# Altium schematic symbol library Misc.SchLib: 4 symbols
Pins are listed as number, name and electrical type; pins without a type are passive.

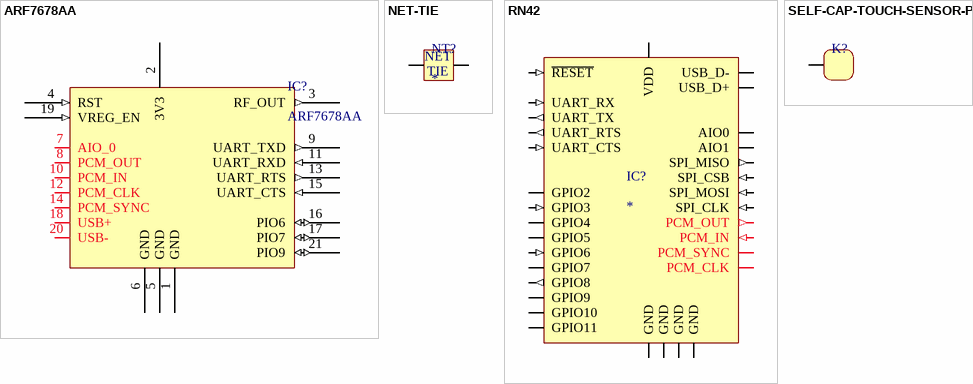
[diagram p0: symbols ARF7678AA to SELF-CAP-TOUCH-SENSOR-PAD]

## ARF7678AA
designator IC?
Bluetooth 2.1 module
footprint BTC2
pins: 1 GND (power), 2 3V3 (power), 3 RF_OUT (out), 4 RST (in), 5 GND (power), 6 GND (power), 7 AIO_0, 8 PCM_OUT, 9 UART_TXD (out), 10 PCM_IN, 11 UART_RXD (in), 12 PCM_CLK, 13 UART_RTS (out), 14 PCM_SYNC, 15 UART_CTS (in), 16 PIO6 (io), 17 PIO7 (io), 18 USB+, 19 VREG_EN (in), 20 USB-, 21 PIO9 (io)

## NET-TIE
designator NT?  (net tie, no BOM)
Generic net tie
footprint NET-TIE-0.15MM (Net tie, 0.15mm track width)
pins: 1, 2
text: NET; TIE

## RN42
designator IC?
Bluetooth 2.1 module
footprint RN42 (Microchip RN42 Bluetooth Module)
pins: 1 GND (power), 2 SPI_MOSI (in), 3 GPIO6 (in), 4 GPIO7 (io), 5 ~{RESET} (in), 6 SPI_CLK (in), 7 PCM_CLK (io), 8 PCM_SYNC (io), 9 PCM_IN (in), 10 PCM_OUT (out), 11 VDD (power), 12 GND (power), 13 UART_RX (in), 14 UART_TX (out), 15 UART_RTS (out), 16 UART_CTS (in), 17 USB_D+ (io), 18 USB_D- (io), 19 GPIO2 (io), 20 GPIO3 (in), 21 GPIO5 (io), 22 GPIO4 (io), 23 SPI_CSB (in), 24 SPI_MISO (out), 28 GND (power), 29 GND (power), 30 AIO0 (io), 31 GPIO8 (out), 32 GPIO9 (io), 33 GPIO10 (io), 34 GPIO11 (io), 35 AIO1 (io)

## SELF-CAP-TOUCH-SENSOR-PAD
designator K?  (value not drawn)
Generic self-capacitance touch sensor pad
footprint TOUCH_SENSOR_SEED (Self-capacitive touch sensor pad seed)
pins: 1